# Altium footprint library PCB.PcbLib: 8 footprints
Each footprint in its own frame and in the unit in brackets; x right, y up, seen from the top. Pads: shape width x height; smd on the part's side, far side on the other; paste and mask are expansions set on the pad; w line width, h text height; cw(c..) or ccw(c..) is an arc to the next point about the centre after c.
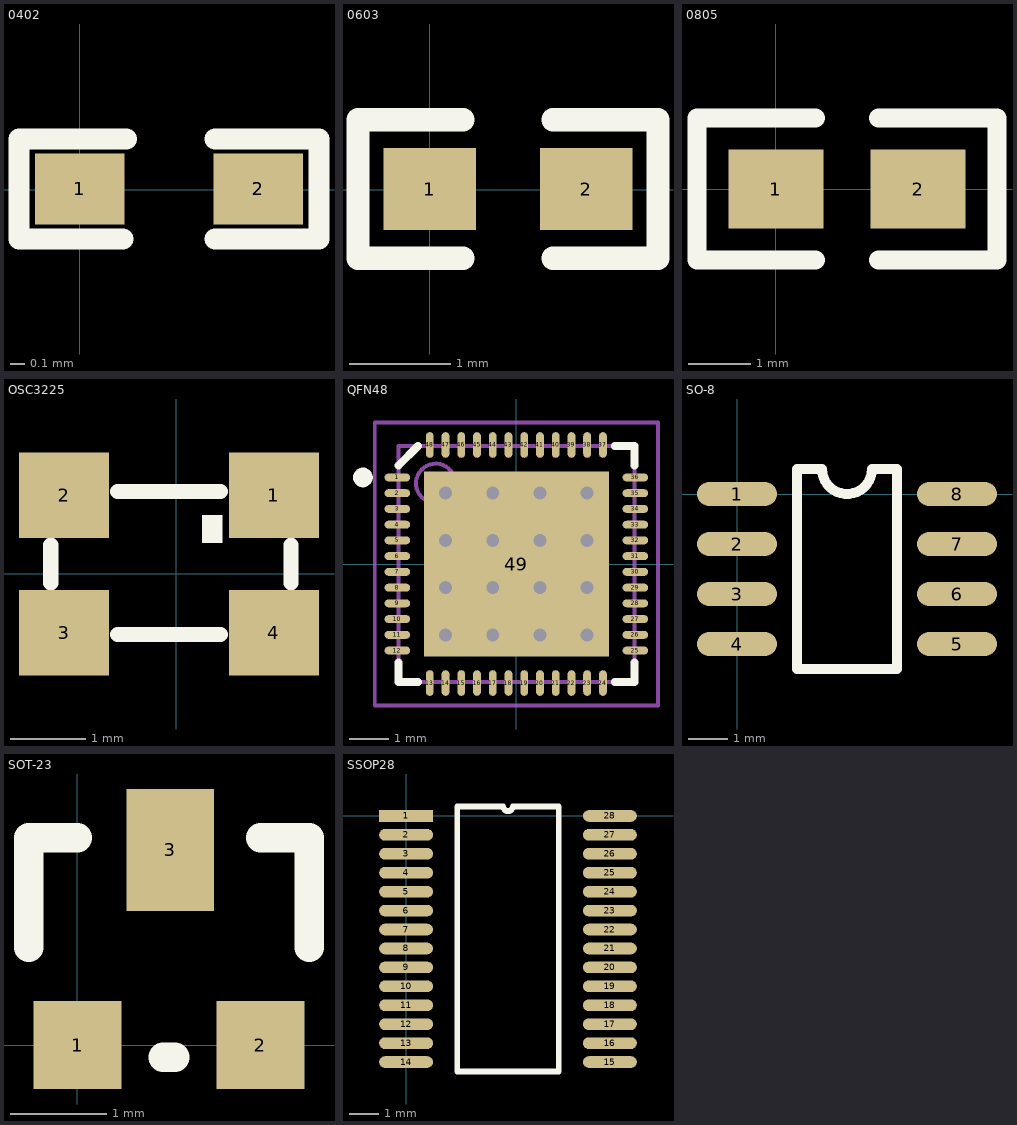
[diagram p0: the footprints below, top view; thin cyan lines are the x and y axes]

## 0402 [mil]
pads (2):
  rect 25x20 smd: 1(-0.04,0.2) 2(49.96,0.2)
TopOverlay:
  lines w6: 11.96,-13.8 -17.04,-13.8 -17.04,14.2 12.96,14.2 ; 37.96,-13.8 66.96,-13.8 66.96,14.2 37.96,14.2

## 0603 [mil]
pads (2):
  rect 36x32 smd: 1(-0.04,0.2) 2(60.96,0.2)
TopOverlay:
  lines w9: 12.96,-26.8 -28.04,-26.8 -28.04,27.2 12.96,27.2 ; 47.96,-26.8 88.96,-26.8 88.96,27.2 47.96,27.2

## 0805 [mil]
pads (2):
  rect 60x50 smd: 1(0.11,0.15) 2(90.11,0.15)
TopOverlay:
  lines w12: 25.11,-44.85 -49.89,-44.85 -49.89,45.15 25.11,45.15 ; 65.11,-44.85 140.11,-44.85 140.11,45.15 65.11,45.15

## OSC3225 [mm]
pads (4):
  rect 1.2x1.143 smd: 1(1.298,1.047) 2(-1.496,1.047) 3(-1.496,-0.782) 4(1.298,-0.782)
TopOverlay:
  region: 0.613,0.787 0.338,0.787 0.338,0.412 0.613,0.412
  lines w0.203: -1.674,-0.122 -1.674,0.386 ; -0.785,-0.808 0.587,-0.808 ; -0.785,1.097 0.587,1.097 ; 1.527,-0.122 1.527,0.386

## QFN48 [mm] "QFN, 48-Leads, Body 6,0x6,0mm (max), Pitch 0,40mm, IPC Medium Density"
height 0.9
pads (49):
  oval 0.65x0.2 smd: 1(-3.025,2.2) 2(-3.025,1.8) 3(-3.025,1.4) 4(-3.025,1) 5(-3.025,0.6) 6(-3.025,0.2) 7(-3.025,-0.2) 8(-3.025,-0.6) 9(-3.025,-1) 10(-3.025,-1.4) 11(-3.025,-1.8) 12(-3.025,-2.2) 25(3.025,-2.2) 26(3.025,-1.8) 27(3.025,-1.4) 28(3.025,-1) 29(3.025,-0.6) 30(3.025,-0.2) 31(3.025,0.2) 32(3.025,0.6) 33(3.025,1) 34(3.025,1.4) 35(3.025,1.8) 36(3.025,2.2)
  oval 0.2x0.65 smd: 13(-2.2,-3.025) 14(-1.8,-3.025) 15(-1.4,-3.025) 16(-1,-3.025) 17(-0.6,-3.025) 18(-0.2,-3.025) 19(0.2,-3.025) 20(0.6,-3.025) 21(1,-3.025) 22(1.4,-3.025) 23(1.8,-3.025) 24(2.2,-3.025) 37(2.2,3.025) 38(1.8,3.025) 39(1.4,3.025) 40(1,3.025) 41(0.6,3.025) 42(0.2,3.025) 43(-0.2,3.025) 44(-0.6,3.025) 45(-1,3.025) 46(-1.4,3.025) 47(-1.8,3.025) 48(-2.2,3.025)
  rect 4.7x4.7 smd: 49(0,0)
via -1.8,1.8 diameter 0.66 hole 0.33
via -0.6,1.8 diameter 0.66 hole 0.33
via 0.6,1.8 diameter 0.66 hole 0.33
via 1.8,1.8 diameter 0.66 hole 0.33
via -1.8,0.6 diameter 0.66 hole 0.33
via -0.6,0.6 diameter 0.66 hole 0.33
via 0.6,0.6 diameter 0.66 hole 0.33
via 1.8,0.6 diameter 0.66 hole 0.33
via -1.8,-0.6 diameter 0.66 hole 0.33
via -0.6,-0.6 diameter 0.66 hole 0.33
via 0.6,-0.6 diameter 0.66 hole 0.33
via 1.8,-0.6 diameter 0.66 hole 0.33
via -1.8,-1.8 diameter 0.66 hole 0.33
via -0.6,-1.8 diameter 0.66 hole 0.33
via 0.6,-1.8 diameter 0.66 hole 0.33
via 1.8,-1.8 diameter 0.66 hole 0.33
TopOverlay:
  circle w0.25: c-3.9,2.2 r0.125
  lines w0.2: -3,-2.5 -3,-3 -2.5,-3 ; -3,2.5 -2.5,3 ; 2.5,-3 3,-3 3,-2.5 ; 2.5,3 3,3 3,2.5
Mechanical13:
  circle w0.1: c-2.05,2.05 r0.5
  lines w0.1: -3,-3 -3,3 3,3 3,-3 -3,-3
Mechanical15:
  lines w0.1: -0.5,0 0.5,0 ; 0,-0.5 0,0.5 ; -3.6,-3.6 -3.6,3.6 3.6,3.6 3.6,-3.6 -3.6,-3.6
3D body: height 0.9, standoff 0, extent -3,-3 3,3

## SO-8 [mil]
pads (8):
  oval 80x24 smd: 1(0,0) 2(0,-50) 3(0,-100) 4(0,-150) 5(220,-150) 6(220,-100) 7(220,-50) 8(220,0)
TopOverlay:
  lines w10: 60,-175 60,25 85,25 ccw(c110,25) 135,25 160,25 160,-175 60,-175

## SOT-23 [mil]
pads (3):
  rect 36x36 smd: 1(0.11,0.15) 2(75.11,0.15)
  rect 36x50 smd: 3(38.11,80.15)
TopOverlay:
  lines w12: -19.89,40.15 -19.89,85.15 0.11,85.15 ; 35.11,-4.85 40.11,-4.85 ; 75.11,85.15 95.11,85.15 95.11,40.15

## SSOP28 [mm]
pads (28):
  rect 1.85x0.4 smd: 1(0,0)
  oval 1.85x0.4 smd: 2(0,-0.65) 3(0,-1.3) 4(0,-1.95) 5(0,-2.6) 6(0,-3.25) 7(0,-3.9) 8(0,-4.55) 9(0,-5.2) 10(0,-5.85) 11(0,-6.5) 12(0,-7.15) 13(0,-7.8) 14(0,-8.45) 15(7,-8.45) 16(7,-7.8) 17(7,-7.15) 18(7,-6.5) 19(7,-5.85) 20(7,-5.2) 21(7,-4.55) 22(7,-3.9) 23(7,-3.25) 24(7,-2.6) 25(7,-1.95) 26(7,-1.3) 27(7,-0.65) 28(7,0)
TopOverlay:
  lines w0.2: 1.76,-8.775 1.76,0.325 3.338,0.325 ccw(c3.5,0.325) 3.662,0.325 5.24,0.325 5.24,-8.775 1.76,-8.775